# EAGLE library part LM348D (library LM348D)
JFET-INPUT QUAD OPERATIONAL AMPLIFIERS
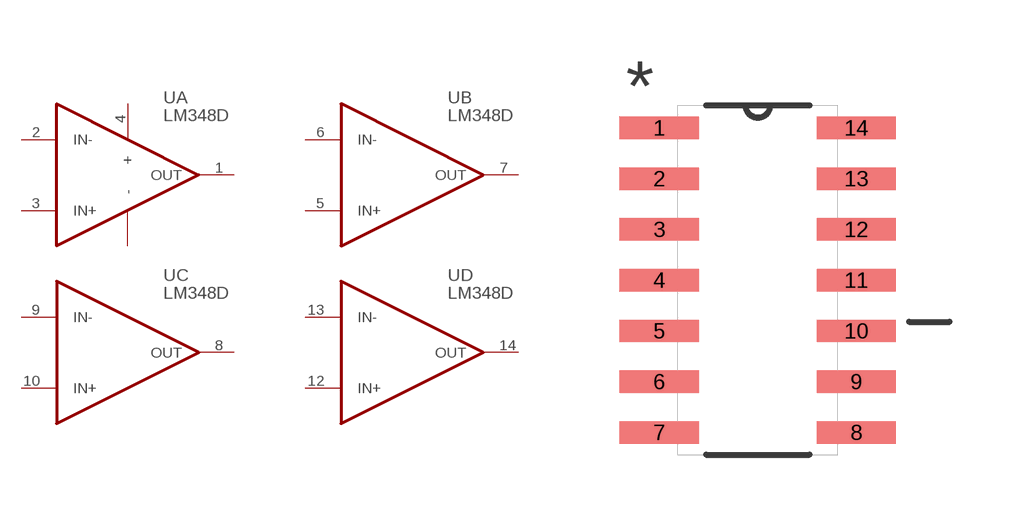
[diagram p0: symbol with the pads of SOIC127P600X175-14N; footprint SOIC127P600X175-14N]

Designator prefix U; gates A=LM348_PWR B=LM348 C=LM348 D=LM348

## LM348D (MPN: LM348D; OC_FARNELL: 9589635; OC_NEWARK: 06F9414; PACKAGE: SOIC-14; SUPPLIER: Texas Instruments)  [SOIC127P600X175-14N]
1  A:OUT  out
2  A:IN-  out
3  A:IN+  out
4  A:+  out
5  B:IN+  out
6  B:IN-  out
7  B:OUT  out
8  C:OUT  out
9  C:IN-  out
10  C:IN+  out
11  A:-  out
12  D:IN+  out
13  D:IN-  out
14  D:OUT  out

## Footprint SOIC127P600X175-14N (pad centres in mm)
smd 1.981 x 0.559: 1 -2.464,3.81; 2 -2.464,2.54; 3 -2.464,1.27; 4 -2.464,0; 5 -2.464,-1.27; 6 -2.464,-2.54; 7 -2.464,-3.81; 8 2.464,-3.81; 9 2.464,-2.54; 10 2.464,-1.27; 11 2.464,0; 12 2.464,1.27; 13 2.464,2.54; 14 2.464,3.81